# Altium footprint library Battery_Charger_LTC4162.PcbLib: 5 footprints
Each footprint in its own frame and in the unit in brackets; x right, y up, seen from the top. Pads: shape width x height; smd on the part's side, far side on the other; paste and mask are expansions set on the pad; w line width, h text height; cw(c..) or ccw(c..) is an arc to the next point about the centre after c.
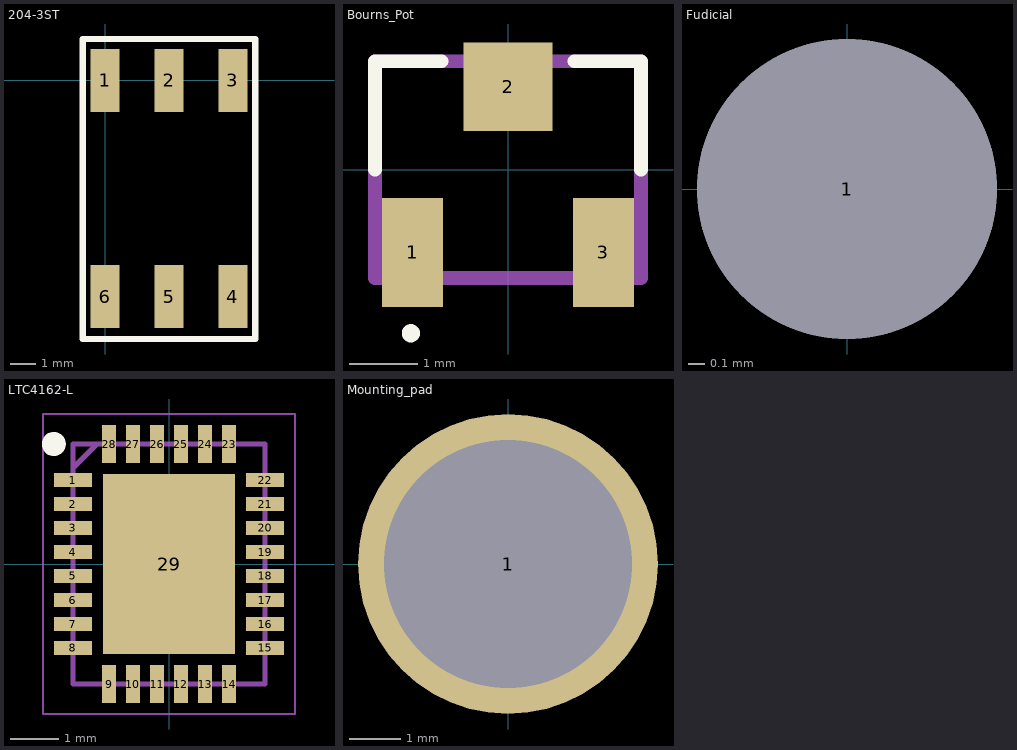
[diagram p0: the footprints below, top view; thin cyan lines are the x and y axes]

## 204-3ST [mm]
pads (6):
  rect 1.15x2.5 smd: 1(0,0) 2(2.54,0) 3(5.08,0) 4(5.08,-8.6) 5(2.54,-8.6) 6(0,-8.6)
Top Overlay:
  lines w0.254: -0.889,-10.287 -0.889,1.651 5.969,1.651 5.969,-10.287 -0.889,-10.287
Mechanical 15:
  lines w0.2: -0.889,-10.287 -0.889,1.651 5.969,1.651 5.969,-10.287 -0.889,-10.287
3D body: height 8.1, standoff 7.1, extent 4.589,-3.165 5.58,-2.169
3D body: height 8.1, standoff 7.1, extent 2.044,-7.098 3.036,-6.102
3D body: height 8.1, standoff 7.1, extent -0.496,-7.098 0.496,-6.102
3D body: height 7.8, standoff 7.6, extent 4.572,-7.366 5.588,-1.27
3D body: height 7.8, standoff 7.6, extent 2.032,-7.366 3.048,-1.27
3D body: height 7.8, standoff 7.6, extent -0.508,-7.366 0.508,-1.27
3D body: height 7.6, standoff 0, extent -0.635,-10.16 5.715,1.143

## Bourns_Pot [mm]
pads (3):
  rect 0.9x1.6 smd: 1(-1.4,-1.215) 3(1.4,-1.215)
  rect 1.3x1.3 smd: 2(0,1.215)
Top Overlay:
  circle w0.2: c-1.425,-2.401 r0.033
  lines w0.2: -1.95,0 -1.95,1.59 -0.971,1.59 ; 0.971,1.59 1.95,1.59 1.95,0
Mechanical 13:
  lines w0.2: -1.95,-1.59 -1.95,1.59 1.95,1.59 1.95,-1.59 -1.95,-1.59
3D body "3223W-1-103E.stp": height 4.32, standoff -0.03, extent -1.956,-1.974 2.032,1.466

## Fudicial [mil]
pads (1):
  round 70 hole 70 unplated: 1(0,0)

## LTC4162-L [mm]
pads (29):
  rect 0.8x0.3 smd: 1(-2,1.75) 2(-2,1.25) 3(-2,0.75) 4(-2,0.25) 5(-2,-0.25) 6(-2,-0.75) 7(-2,-1.25) 8(-2,-1.75) 15(2,-1.75) 16(2,-1.25) 17(2,-0.75) 18(2,-0.25) 19(2,0.25) 20(2,0.75) 21(2,1.25) 22(2,1.75)
  rect 0.3x0.8 smd: 9(-1.25,-2.5) 10(-0.75,-2.5) 11(-0.25,-2.5) 12(0.25,-2.5) 13(0.75,-2.5) 14(1.25,-2.5) 23(1.25,2.5) 24(0.75,2.5) 25(0.25,2.5) 26(-0.25,2.5) 27(-0.75,2.5) 28(-1.25,2.5)
  rect 2.75x3.75 smd: 29(0,0)
Top Overlay:
  circle w0.25: c-2.4,2.5 r0.125
Mechanical 13:
  lines w0.1: -2,2 -1.5,2.5 ; -2,-2.5 2,-2.5 2,2.5 -2,2.5 -2,-2.5
Mechanical 15:
  lines w0.05: -2.625,-3.125 2.625,-3.125 2.625,3.125 -2.625,3.125 -2.625,-3.125
3D body "LTC4162EUFD-L41#PBF.stp": height 0.8, standoff 0, extent -2.05,-2.55 2.05,2.55

## Mounting_pad [mil]
pads (1):
  round 230 hole 190: 1(0,0)